# Altium schematic symbol library Kelboy.SchLib: 67 symbols (part 3 of 3)
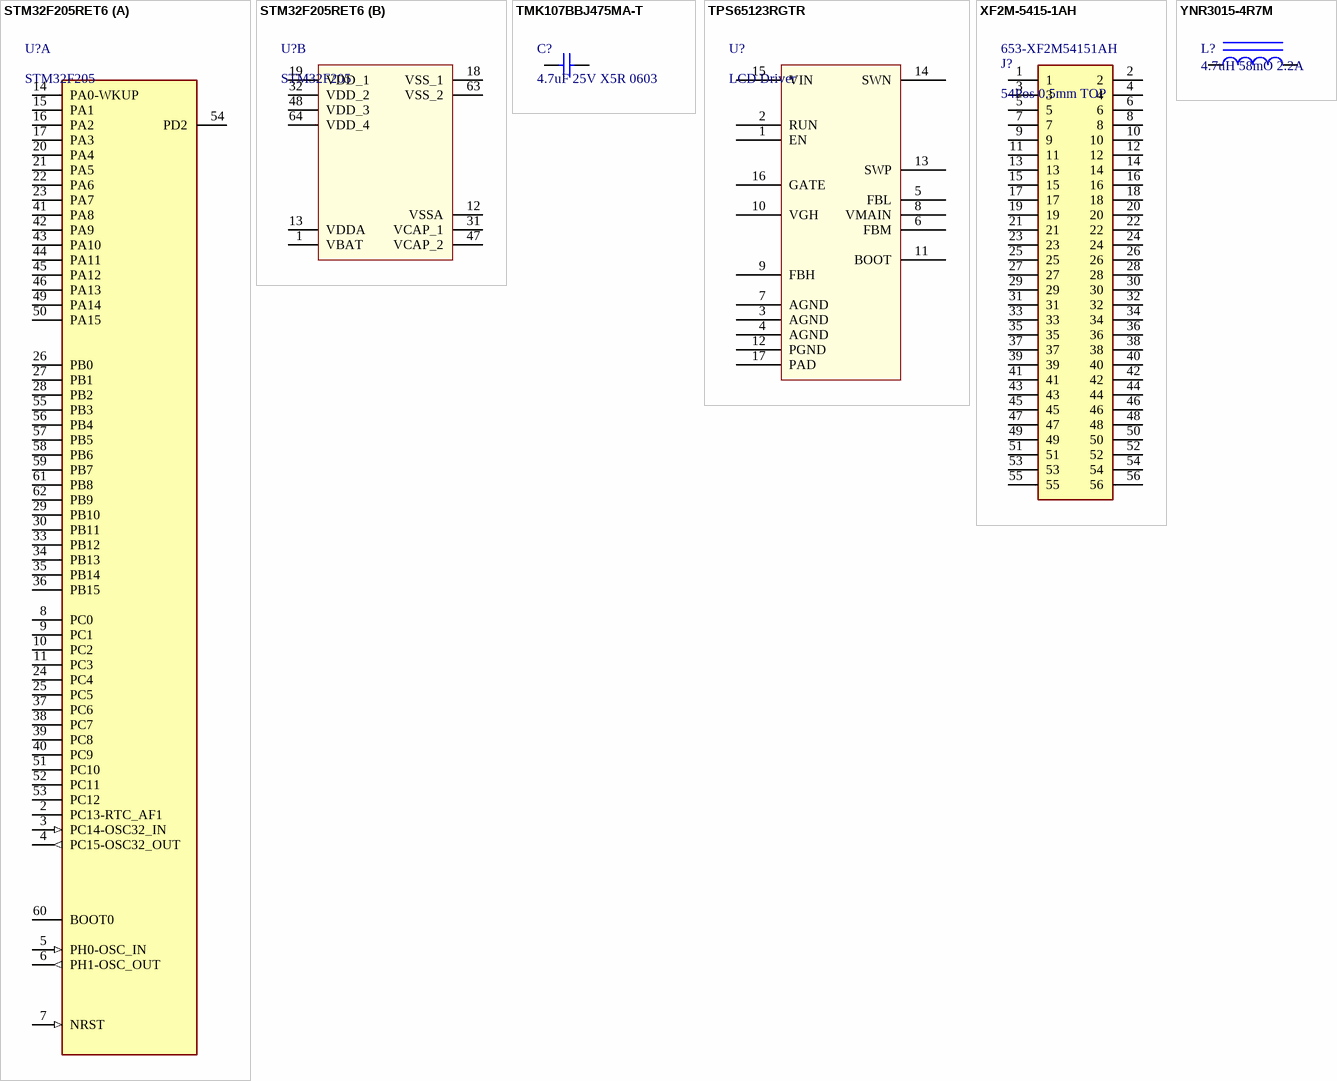
[diagram p4: symbols STM32F205RET6 to YNR3015-4R7M]

## STM32F205RET6
designator U?, comment STM32F205
32 Bit Microcontroller, Advanced Connectivity and Encryption, ARM Cortex-M3, 120 MHz, 512 KB; Manufacturer 1: STMicroelectronics; Manufacturer Part Number 1: STM32F205RET6; RAM Size: 132KB; Interface: I2C; Number of I/Os: 51; Number of Timers/Counters: 14; Frequency: 120MHz; Max Supply Voltage: 3.6V; Min Supply Voltage: 1.8V; Oscillator Type: Internal; Number of Programmable I/O: 16; Data Bus Width: 32b; Watchdog Timer: Yes; Memory Type: FLASH; Memory Size: 512KB; Peripherals: Brown-out Detect/Reset; Number of USB Channels: 2; Max Power Dissipation: 444mW; Number of PWM Channels: 4; Number of SPI Channels: 3; Supplier 1: Mouser; Stock 1: 1406; Pricing 1: 1=10.52000, 10=9.51000, 25=9.07000, 50=9.07000, 100=7.88000, 250=7.52000, 500=6.86000, 1000=5.98000, 2500=5.75000, 5000=5.31000, 10000=5.98000 (USD); RoHS: Yes; Case/Package: LQFP; Number of Pins: 64; Contact Plating: Gold; Min Operating Temperature: -40°C; Max Operating Temperature: 85°C; Package Quantity: 160; Packaging: Tray; Max Frequency: 120MHz; Core Architecture: ARM; Number of ADC Channels: 16; Number of I2C Channels: 3; Number of UART Channels: 2; Length: 10mm; Height: 1.45mm; Width: 10mm; Radiation Hardening: No; Lead Free: Lead Free; REACH SVHC: No SVHC; ComponentLink1URL: https://datasheet.ciiva.com/25628/0900766b81187d75-25628067.pdf?src-supplier=RSComponents; ComponentLink1Description: https://datasheet.ciiva.com/25628/0900766b81187d75-25628067.pdf?src-supplier=RSComponents; ComponentLink2URL: https://datasheet.ciiva.com/4839/cd00237391-492145-4839399.pdf?src-supplier=Mouser; ComponentLink2Description: https://datasheet.ciiva.com/4839/cd00237391-492145-4839399.pdf?src-supplier=Mouser; ComponentLink3URL: https://datasheet.ciiva.com/16355/cd00237391-16355655.pdf?src-supplier=Future+Electronics; ComponentLink3Description: https://datasheet.ciiva.com/16355/cd00237391-16355655.pdf?src-supplier=Future+Electronics; ComponentLink4URL: https://datasheet.ciiva.com/8055/1776949-8055002.pdf?src-supplier=Element14; ComponentLink4Description: https://datasheet.ciiva.com/8055/1776949-8055002.pdf?src-supplier=Element14; ComponentLink5URL: https://datasheet.ciiva.com/48687/001075499-da-01-en-mcu-512kb-stm32f205ret6-lqfp-64-stm-48687467.pdf?src-supplier=Conrad; ComponentLink5Description: https://datasheet.ciiva.com/48687/001075499-da-01-en-mcu-512kb-stm32f205ret6-lqfp-64-stm-48687467.pdf?src-supplier=Conrad; Supplier Part Number 1: 511-STM32F205RET6
footprint QFP50P1200X1200X160-64N
part A pins: 2 PC13-RTC_AF1, 3 PC14-OSC32_IN (in), 4 PC15-OSC32_OUT (out), 5 PH0-OSC_IN (in), 6 PH1-OSC_OUT (out), 7 NRST (in), 8 PC0, 9 PC1, 10 PC2, 11 PC3, 14 PA0-WKUP, 15 PA1, 16 PA2, 17 PA3, 20 PA4, 21 PA5, 22 PA6, 23 PA7, 24 PC4, 25 PC5, 26 PB0, 27 PB1, 28 PB2, 29 PB10, 30 PB11, 33 PB12, 34 PB13, 35 PB14, 36 PB15, 37 PC6, 38 PC7, 39 PC8, 40 PC9, 41 PA8, 42 PA9, 43 PA10, 44 PA11, 45 PA12, 46 PA13, 49 PA14, 50 PA15, 51 PC10, 52 PC11, 53 PC12, 54 PD2, 55 PB3, 56 PB4, 57 PB5, 58 PB6, 59 PB7, 60 BOOT0, 61 PB8, 62 PB9
part B pins: 1 VBAT, 12 VSSA (power), 13 VDDA (power), 18 VSS_1 (power), 19 VDD_1 (power), 31 VCAP_1, 32 VDD_2 (power), 47 VCAP_2, 48 VDD_3 (power), 63 VSS_2 (power), 64 VDD_4 (power)

## TMK107BBJ475MA-T
designator C?, comment 4.7uF 25V X5R 0603
Condensadores de cerámica multicapa (MLCC- SMD/SMT) 0603 25VDC 4.7uF 20% X5R; Manufacturer 1: Taiyo Yuden; Manufacturer Part Number 1: TMK107BBJ475MA-T; Supplier 1: Mouser; Stock 1: 7442; Pricing 1: 1=0.31000, 10=0.15200, 50=0.15200, 100=0.10900, 1000=0.08300, 10000=0.06500 (USD); RoHS: No; Supplier Part Number 1: 963-TMK107BBJ475MA-T
footprint C 0603/1608
pins: 1, 2

## TPS65123RGTR
designator U?, comment LCD Driver
LCD Drivers Single-Inductor Triple-Output; Manufacturer 1: Texas Instruments; Manufacturer Part Number 1: TPS65123RGTR; Number of Outputs: 4; Max Power Dissipation: 250mW; Max Supply Voltage: 5.5V; Min Supply Voltage: 2.5V; Switching Frequency: 4MHz; Output Voltage: -18V; Quiescent Current: 181uA; Output Current: 25mA; Touchscreen: No; Max Supply Current: 170uA; Supplier 1: Mouser; Stock 1: 1549; Pricing 1: 1=2.84000, 10=2.42000, 50=2.42000, 100=1.94000, 500=1.70000, 1000=1.41000, 3000=1.31000, 6000=1.26000, 9000=1.21000, 10000=1.26000 (USD); RoHS: Yes; Case/Package: VQFN EP; Number of Pins: 16; Weight: 0.000808oz; Min Operating Temperature: -40°C; Max Operating Temperature: 85°C; Packaging: Tape and Reel; Package Quantity: 1; Max Input Voltage: 5.5V; Min Input Voltage: 2.5V; Power Dissipation: 250mW; Max Frequency: 4MHz; Radiation Hardening: No; Lead Free: Lead Free; ComponentLink1URL: https://datasheet.ciiva.com/15136/getdatasheetpartid-515382-15136073.pdf?src-supplier=Verical; ComponentLink1Description: https://datasheet.ciiva.com/15136/getdatasheetpartid-515382-15136073.pdf?src-supplier=Verical; ComponentLink2URL: https://datasheet.ciiva.com/26239/tps65124-26239992.pdf?src-supplier=Avnet+Europe; ComponentLink2Description: https://datasheet.ciiva.com/26239/tps65124-26239992.pdf?src-supplier=Avnet+Europe; ComponentLink3URL: https://datasheet.ciiva.com/2077/tps65120-2077513.pdf?src-supplier=Digi-Key; ComponentLink3Description: https://datasheet.ciiva.com/2077/tps65120-2077513.pdf?src-supplier=Digi-Key; ComponentLink4URL: https://datasheet.ciiva.com/3058/tps65124-3058729.pdf?src-supplier=Avnet; ComponentLink4Description: https://datasheet.ciiva.com/3058/tps65124-3058729.pdf?src-supplier=Avnet; ComponentLink5URL: https://datasheet.ciiva.com/2077/tps65120-2077514.pdf?src-supplier=Digi-Key; ComponentLink5Description: https://datasheet.ciiva.com/2077/tps65120-2077514.pdf?src-supplier=Digi-Key; ComponentLink6URL: https://datasheet.ciiva.com/3058/tps65124-3058730.pdf?src-supplier=Avnet; ComponentLink6Description: https://datasheet.ciiva.com/3058/tps65124-3058730.pdf?src-supplier=Avnet; ComponentLink7URL: https://datasheet.ciiva.com/2077/tps65120-2077515.pdf?src-supplier=Digi-Key; ComponentLink7Description: https://datasheet.ciiva.com/2077/tps65120-2077515.pdf?src-supplier=Digi-Key; Supplier Part Number 1: 595-TPS65123RGTR
pins: 1 EN, 2 RUN, 3 AGND, 4 AGND, 5 FBL, 6 FBM, 7 AGND, 8 VMAIN, 9 FBH, 10 VGH, 11 BOOT, 12 PGND, 13 SWP, 14 SWN, 15 VIN, 16 GATE, 17 PAD

## XF2M-5415-1AH
designator J?, comment 54Pos 0.5mm TOP  Supplier Part Number 1: 653-XF2M54151AH
CONN FPC 54POS 0.50MM R/A; Manufacturer 1: Omron; Manufacturer Part Number 1: XF2M-5415-1AH; Actuator Material: Polymer,Liquid Crystal Polymer; Voltage Rating: 50V; Current Rating: 500mA; Number of Positions: 54; Gender: Receptacle; Pitch: 0.02inch; Supplier 1: Mouser; Stock 1: 753; Pricing 1: 1=2,56000, 10=2,16000, 50=2,16000, 100=2,05000, 250=1,80000, 500=1,75000, 1000=1,65000, 1500=1,55000, 10000=1,55000 (USD); RoHS: Yes; Mount: Surface Mount; Contact Material: Copper Alloy; Contact Plating: Gold; Housing Material: Polymer; Min Operating Temperature: -30°C; Max Operating Temperature: 85°C; Packaging: Cut Tape; Number of Rows: 1; Termination: Solder; Orientation: Right Angle; Package Quantity: 1; Flammability Rating: UL94 V-0; REACH SVHC: Unknown; ComponentLink1URL: https://datasheet.ciiva.com/29758/en-sdlj-069k-29758209.pdf?src-supplier=Digi-Key; ComponentLink1Description: https://datasheet.ciiva.com/29758/en-sdlj-069k-29758209.pdf?src-supplier=Digi-Key; ComponentLink2URL: https://datasheet.ciiva.com/29758/en-sdlj-069k-29758213.pdf?src-supplier=Digi-Key; ComponentLink2Description: https://datasheet.ciiva.com/29758/en-sdlj-069k-29758213.pdf?src-supplier=Digi-Key; ComponentLink3URL: https://datasheet.ciiva.com/29758/en-sdlj-069k-29758205.pdf?src-supplier=Digi-Key; ComponentLink3Description: https://datasheet.ciiva.com/29758/en-sdlj-069k-29758205.pdf?src-supplier=Digi-Key; ComponentLink4URL: https://datasheet.ciiva.com/48563/en-xf2m-48563918.pdf?src-supplier=Avnet; ComponentLink4Description: https://datasheet.ciiva.com/48563/en-xf2m-48563918.pdf?src-supplier=Avnet
footprint XF2M54151AH
pins: 1, 2, 3, 4, 5, 6, 7, 8, 9, 10, 11, 12, 13, 14, 15, 16, 17, 18, 19, 20, 21, 22, 23, 24, 25, 26, 27, 28, 29, 30, 31, 32, 33, 34, 35, 36, 37, 38, 39, 40, 41, 42, 43, 44, 45, 46, 47, 48, 49, 50, 51, 52, 53, 54, 55, 56

## YNR3015-4R7M
designator L?, comment 4.7uH 58mO 2.2A
FIXED IND 4.7UH 2.2A 58 MOHM SMD; Manufacturer Part Number 1: YNR3015-4R7M; Supplier 1: LCSCS
footprint NRS3015T2R2MNGH
pins: 1, 2